# Altium integrated library XT-Connectors.IntLib: 1 symbol
Pins are listed as number, name and electrical type; pins without a type are passive.

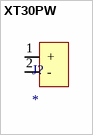
[diagram p0: symbol XT30PW]

## XT30PW
designator J?
footprint XT30PW-F (XT30 female angled connector rated up to 15A and 30A peak at 500V)
footprint XT30PW-M (XT30 male angled connector rated up to 15A and 30A peak at 500V)
footprint XT30PW-UP-F (XT30 female connector rated up to 15A and 30A peak at 500V)
footprint XT30PW-UP-M (XT30 male connector rated up to 15A and 30A peak at 500V)
pins: 1 +, 2 -